# EAGLE library part LTC4000-1 (library SeniorDesign)
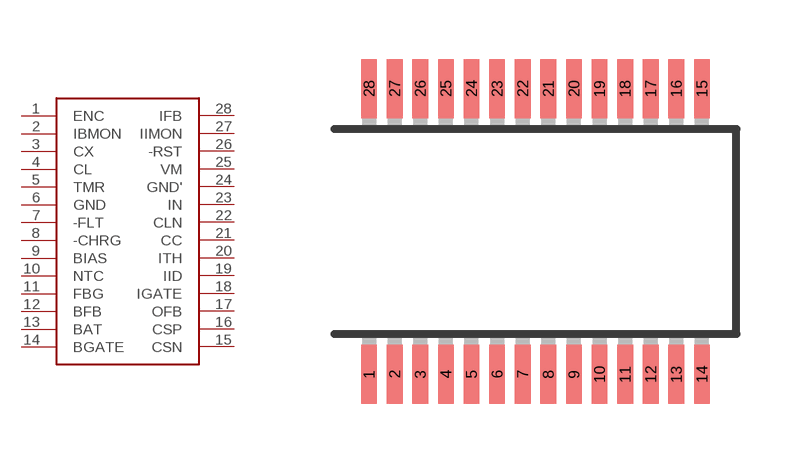
[diagram p0: symbol with the pads of SSOP28; footprint SSOP28]

Designator prefix -

## LTC4000-1  [SSOP28]
1  ENC
2  IBMON
3  CX
4  CL
5  TMR
6  GND
7  -FLT
8  -CHRG
9  BIAS
10  NTC
11  FBG
12  BFB
13  BAT
14  BGATE
15  CSN
16  CSP
17  OFB
18  IGATE
19  IID
20  ITH
21  CC
22  CLN
23  IN
24  GND'
25  VM
26  -RST
27  IIMON
28  IFB

## Footprint SSOP28 (pad centres in mm)
Shrink Small Outline Package package type SS
smd 0.4 x 1.5: 1 -4.225,-3.625; 2 -3.575,-3.625; 3 -2.925,-3.625; 4 -2.275,-3.625; 5 -1.625,-3.625; 6 -0.975,-3.625; 7 -0.325,-3.625; 8 0.325,-3.625; 9 0.975,-3.625; 10 1.625,-3.625; 11 2.275,-3.625; 12 2.925,-3.625; 13 3.575,-3.625; 14 4.225,-3.625; 15 4.225,3.625; 16 3.575,3.625; 17 2.925,3.625; 18 2.275,3.625; 19 1.625,3.625; 20 0.975,3.625; 21 0.325,3.625; 22 -0.325,3.625; 23 -0.975,3.625; 24 -1.625,3.625; 25 -2.275,3.625; 26 -2.925,3.625; 27 -3.575,3.625; 28 -4.225,3.625